# Altium footprint library PMIC.PcbLib: 3 footprints
Each footprint in its own frame and in the unit in brackets; x right, y up, seen from the top. Pads: shape width x height; smd on the part's side, far side on the other; paste and mask are expansions set on the pad; w line width, h text height; cw(c..) or ccw(c..) is an arc to the next point about the centre after c.
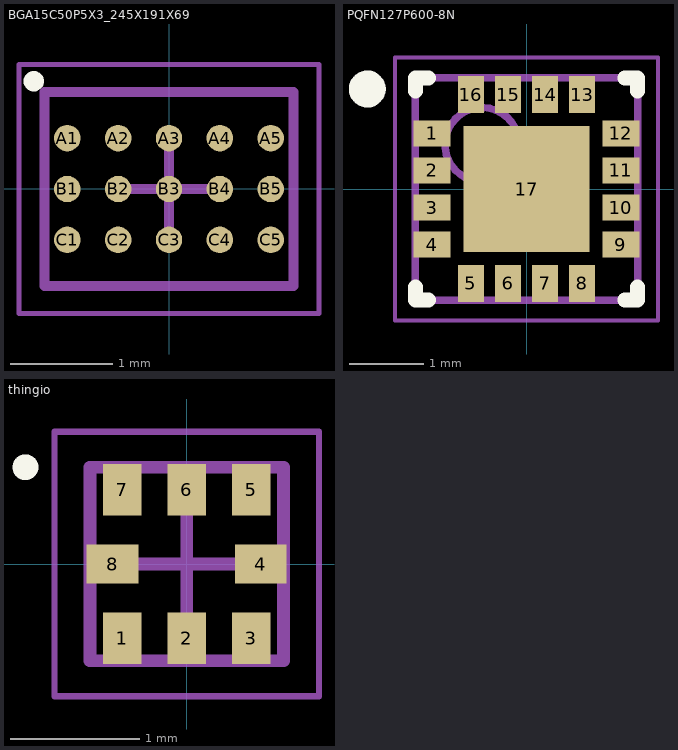
[diagram p0: the footprints below, top view; thin cyan lines are the x and y axes]

## BGA15C50P5X3_245X191X69 [mm] "BGA, 15-Leads, Body 2.45x1.91mmx0.69mm, Pitch 0.50mm"
height 0.69
pads (15):
  round 0.26 smd: A1(-1,0.5) A2(-0.5,0.5) A3(0,0.5) A4(0.5,0.5) A5(1,0.5) B1(-1,0) B2(-0.5,0) B3(0,0) B4(0.5,0) B5(1,0) C1(-1,-0.5) C2(-0.5,-0.5) C3(0,-0.5) C4(0.5,-0.5) C5(1,-0.5)
Top Overlay:
  circle w0.1: c-1.33,1.06 r0.05
Mechanical 13:
  lines w0.1: -1.225,-0.955 -1.225,0.955 1.225,0.955 1.225,-0.955 -1.225,-0.955
Mechanical 15:
  lines w0.05: -1.475,-1.225 -1.475,1.225 1.475,1.225 1.475,-1.225 -1.475,-1.225
  lines w0.1: -0.5,0 0.5,0 ; 0,-0.5 0,0.5
3D body "BGA15C50P5X3_245X191X69.step": height 0.69, standoff 0, extent -1.225,-0.955 1.225,0.955

## PQFN127P600-8N [mm]
height 0.83
pads (17):
  rect 0.5x0.35 smd: 1(-1.275,0.75) 2(-1.275,0.25) 3(-1.275,-0.25) 4(-1.275,-0.75) 9(1.275,-0.75) 10(1.275,-0.25) 11(1.275,0.25) 12(1.275,0.75)
  rect 0.35x0.5 smd: 5(-0.75,-1.275) 6(-0.25,-1.275) 7(0.25,-1.275) 8(0.75,-1.275) 13(0.75,1.275) 14(0.25,1.275) 15(-0.25,1.275) 16(-0.75,1.275)
  rect 1.7x1.7 smd: 17(0,0)
Top Overlay:
  circle w0.25: c-2.15,1.35 r0.125
  lines w0.2: -1.5,-1.325 -1.5,-1.5 -1.325,-1.5 ; -1.5,1.325 -1.5,1.5 -1.325,1.5 ; 1.325,-1.5 1.5,-1.5 1.5,-1.325 ; 1.325,1.5 1.5,1.5 1.5,1.325
Mechanical 13:
  circle w0.1: c-0.6,0.6 r0.5
  lines w0.1: -1.5,-1.5 1.5,-1.5 1.5,1.5 -1.5,1.5 -1.5,-1.5
Mechanical 15:
  lines w0.05: -1.775,-1.775 1.775,-1.775 1.775,1.775 -1.775,1.775 -1.775,-1.775
  lines w0.1: -0.5,0 0.5,0 ; 0,-0.5 0,0.5
3D body "PQFN127P600-8N.step": height 0.83, standoff 0, extent -1.5,-1.5 1.5,1.5

## thingio [mm]
height 0.4
pads (8):
  rect 0.3x0.4 smd: 1(-0.5,-0.575) 2(0,-0.575) 3(0.5,-0.575) 5(0.5,0.575) 6(0,0.575) 7(-0.5,0.575)
  rect 0.4x0.3 smd: 4(0.575,0) 8(-0.575,0)
Top Overlay:
  circle w0.1: c-1.25,0.75 r0.05
Mechanical 13:
  lines w0.1: -0.75,-0.75 0.75,-0.75 0.75,0.75 -0.75,0.75 -0.75,-0.75
Mechanical 15:
  lines w0.05: -1.025,-1.025 1.025,-1.025 1.025,1.025 -1.025,1.025 -1.025,-1.025
  lines w0.1: -0.5,0 0.5,0 ; 0,-0.5 0,0.5
3D body "thingio.step": height 0.4, standoff 0, extent -0.75,-0.75 0.75,0.75